# EAGLE library part TPS63002 (library jseng)
TPS63002 - 5V buck-boost switching regulator
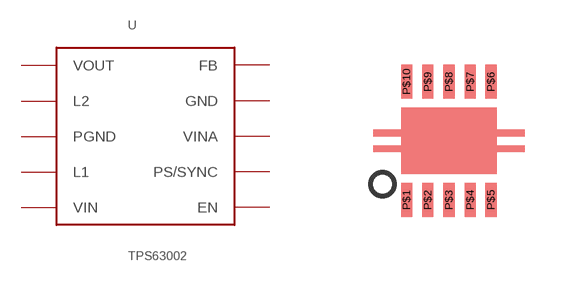
[diagram p2: symbol with the pads of 10SON; footprint 10SON]

Designator prefix -

## TPS63002  [10SON]
P$1  VOUT
P$2  L2
P$3  PGND
P$4  L1
P$5  VIN
P$6  EN
P$7  PS/SYNC
P$8  VINA
P$9  GND
P$10  FB

## Footprint 10SON (pad centres in mm)
smd 0.28 x 0.85: P$1 0.14,0.43; P$2 0.67,0.43; P$3 1.2,0.43; P$4 1.73,0.43; P$5 2.25,0.43; P$6 2.25,3.39; P$7 1.73,3.39; P$8 1.2,3.39; P$9 0.67,3.39; P$10 0.14,3.39